# Altium footprint library QVTS_03-12-20.PcbLib: 1 footprints
Each footprint in its own frame and in the unit in brackets; x right, y up, seen from the top. Pads: shape width x height; smd on the part's side, far side on the other; paste and mask are expansions set on the pad; w line width, h text height; cw(c..) or ccw(c..) is an arc to the next point about the centre after c.
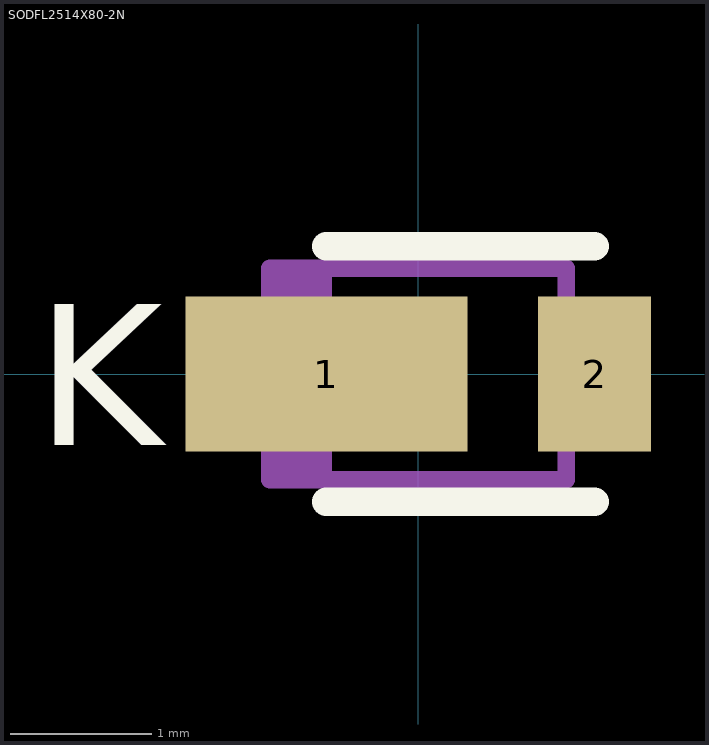
[diagram p0: the footprint, top view; thin cyan lines are the x and y axes]

## SODFL2514X80-2N [mm] "ZENER DIODES (CORRESPONDS TO AEC"
height 0.8
pads (2):
  rect 2x1.1 smd: 1(-0.65,0)
  rect 0.8x1.1 smd: 2(1.25,0)
Top Overlay:
  lines w0.203: -0.65,-0.906 1.25,-0.906 ; -0.65,0.906 1.25,0.906
  text "K" at -2.709,-0.504 h1
Mechanical 1:
  text ".Designator" at -0.063,-0.441 h1.52
Mechanical 15:
  lines w0.126: -0.924,-0.75 -0.924,0.75 ; -0.798,-0.75 -0.798,0.75 ; -0.672,-0.75 -0.672,0.75 ; -1.05,-0.75 1.05,-0.75 1.05,0.75 -1.05,0.75 -1.05,-0.75
3D body "DIO_RBE1VAM_ROM-L.step": height 0.81, standoff 0, extent -1.364,-0.705 1.328,0.691